# Altium schematic symbol library Connector-Barrier.SchLib: 1 symbol
Pins are listed as number, name and electrical type; pins without a type are passive.

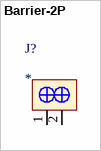
[diagram p0: symbol Barrier-2P]

## Barrier-2P
designator J?
栅栏式接线端子; Manufacturer_Name: *; Manufacturer_Part_Number: *; LCSC: *; Manufacturer_Name_1: *; Manufacturer_Part_Number_1: *
footprint DBT50G-7.62-2P-BK-P (DORABO(地博电气) DBT50G-7.62-2P-BK-P)
footprint DBT50G-9.5-2P (DORABO(地博电气) DBT50G-9.5-2P)
pins: 1, 2